# EAGLE library part ADUM3401 (library Analog Devices)
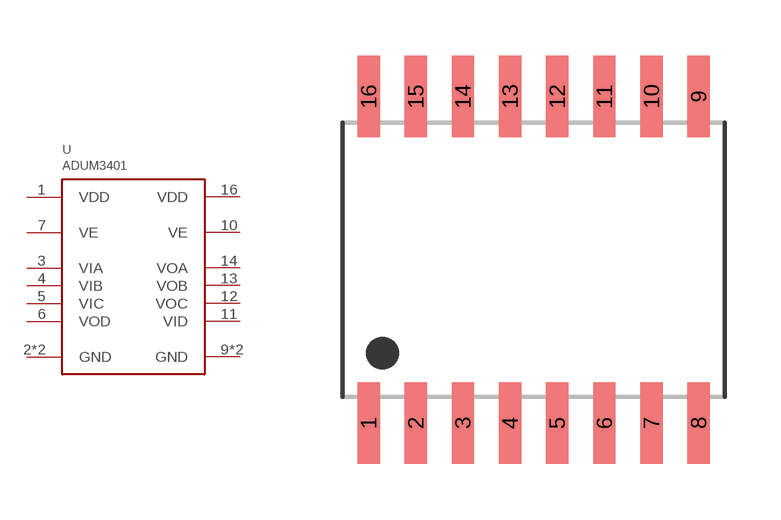
[diagram p66: symbol with the pads of SOIC16; footprint SOIC16]

Designator prefix U

## ADUM3401  [SOIC16]
1  VDD
2  GND
3  VIA
4  VIB
5  VIC
6  VOD
7  VE
8  GND
9  GND
10  VE
11  VID
12  VOC
13  VOB
14  VOA
15  GND
16  VDD

## Footprint SOIC16 (pad centres in mm)
smd 0.6 x 2.2: 1 -4.445,-4.4; 2 -3.175,-4.4; 3 -1.905,-4.4; 4 -0.635,-4.4; 5 0.635,-4.4; 6 1.905,-4.4; 7 3.175,-4.4; 8 4.445,-4.4; 9 4.445,4.4; 10 3.175,4.4; 11 1.905,4.4; 12 0.635,4.4; 13 -0.635,4.4; 14 -1.905,4.4; 15 -3.175,4.4; 16 -4.445,4.4